# Altium footprint library PcbLib.PcbLib: 21 footprints (part 1 of 2)
Each footprint in its own frame and in the unit in brackets; x right, y up, seen from the top. Pads: shape width x height; smd on the part's side, far side on the other; paste and mask are expansions set on the pad; w line width, h text height; cw(c..) or ccw(c..) is an arc to the next point about the centre after c.
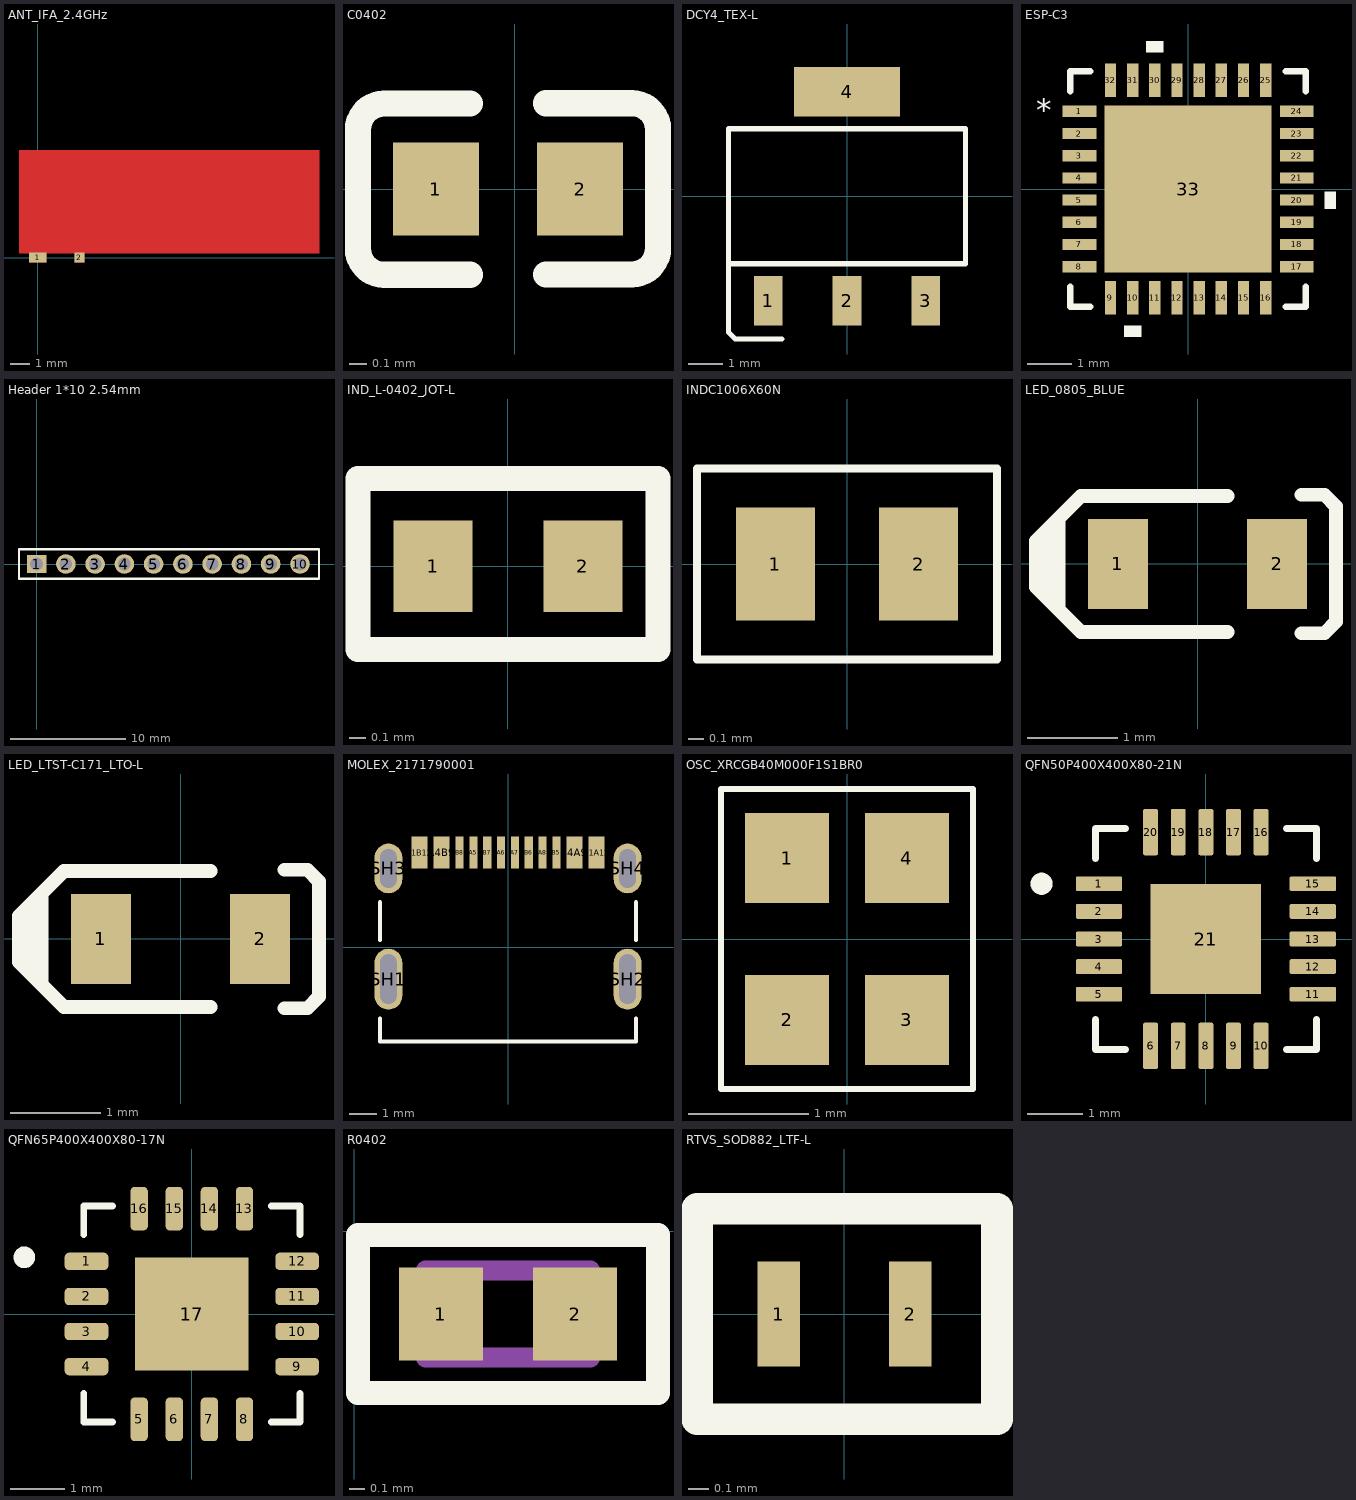
[diagram p0: the footprints below, top view; thin cyan lines are the x and y axes]

## ANT_IFA_2.4GHz [mm]
pads (2):
  rect 0.9x0.5 smd mask-2539.97: 1(0,0)
  rect 0.5x0.5 smd mask-2539.97: 2(2.107,-0.003)
Top Layer:
  rectangle: -0.45,-0.254 0.45,5.146
  region: 13.95,5.146 13.45,5.146 13.45,0.706 13.95,0.706
  region: 11.25,5.146 11.25,4.646 13.95,4.646 13.95,5.146
  rectangle: 11.25,2.006 11.75,5.146
  region: 11.75,2.006 11.75,2.506 8.75,2.506 8.75,2.006
  region: 9.25,5.146 8.75,5.146 8.75,2.006 9.25,2.006
  region: 9.25,4.646 9.25,5.146 6.55,5.146 6.55,4.646
  rectangle: 1.857,-0.253 2.357,5.146
  region: -0.45,5.146 -0.45,4.646 4.55,4.646 4.55,5.146
  region: 4.55,5.146 4.05,5.146 4.05,2.006 4.55,2.006
  region: 7.05,2.006 7.05,2.506 4.05,2.506 4.05,2.006
  rectangle: 6.55,2.006 7.05,5.146
  pour cut-out: -0.95,0.229 14.25,0.229 14.25,5.446 -0.95,5.446
Top Solder:
  rectangle: 1.857,0.247 2.357,5.15
  rectangle: -0.45,0.25 0.45,5.15
  region: 13.95,5.15 13.45,5.15 13.45,0.71 13.95,0.71
  region: 11.25,5.15 11.25,4.65 13.95,4.65 13.95,5.15
  rectangle: 11.25,2.01 11.75,5.15
  region: 11.75,2.01 11.75,2.51 8.75,2.51 8.75,2.01
  region: 9.25,5.15 8.75,5.15 8.75,2.01 9.25,2.01
  region: 9.25,4.65 9.25,5.15 6.55,5.15 6.55,4.65
  region: -0.45,5.15 -0.45,4.65 4.55,4.65 4.55,5.15
  region: 4.55,5.15 4.05,5.15 4.05,2.01 4.55,2.01
  region: 7.05,2.01 7.05,2.51 4.05,2.51 4.05,2.01
  rectangle: 6.55,2.01 7.05,5.15

## C0402 [mm]
pads (2):
  rect 0.5x0.54 smd paste+0 mask+0.051: 1(-0.459,0) 2(0.381,0)
Top Overlay:
  lines w0.152: -0.26,-0.5 -0.76,-0.5 cw(c-0.76,-0.347) -0.913,-0.347 -0.913,0.345 cw(c-0.76,0.345) -0.76,0.498 -0.26,0.498 ; 0.182,-0.498 0.682,-0.498 ccw(c0.682,-0.345) 0.835,-0.345 0.835,0.347 ccw(c0.682,0.347) 0.682,0.5 0.182,0.5
Mechanical 15:
  lines w0.003: 0.278,0.127 0.279,0.127
3D body "C0402C152J5GACTU.STEP": height 0.51, standoff 0.01, extent -0.551,-0.271 0.449,0.279

## DCY4_TEX-L [mil]
pads (4):
  rect 33x57.5 smd paste+0 mask+0: 1(-91,-120.75) 2(0,-120.75) 3(91,-120.75)
  rect 122x57.5 smd paste+0 mask+0: 4(0,120.75)
Top Overlay:
  lines w6: -75,-165 -129.22,-165 -137,-157.22 -137,-78 ; -137,-78 137,-78 137,78 -137,78 -137,-78
3D body "DCY4_TEX.step": height 67.09, standoff 0, extent -132.01,-143.5 132.01,143.5

## ESP-C3 [mm]
pads (33):
  rect 0.757x0.255 smd paste+0 mask+0: 1(-2.449,1.75) 2(-2.449,1.25) 3(-2.449,0.75) 4(-2.449,0.25) 5(-2.449,-0.25) 6(-2.449,-0.75) 7(-2.449,-1.25) 8(-2.449,-1.75) 17(2.449,-1.75) 18(2.449,-1.25) 19(2.449,-0.75) 20(2.449,-0.25) 21(2.449,0.25) 22(2.449,0.75) 23(2.449,1.25) 24(2.449,1.75)
  rect 0.255x0.757 smd paste+0 mask+0: 9(-1.75,-2.449) 10(-1.25,-2.449) 11(-0.75,-2.449) 12(-0.25,-2.449) 13(0.25,-2.449) 14(0.75,-2.449) 15(1.25,-2.449) 16(1.75,-2.449) 25(1.75,2.449) 26(1.25,2.449) 27(0.75,2.449) 28(0.25,2.449) 29(-0.25,2.449) 30(-0.75,2.449) 31(-1.25,2.449) 32(-1.75,2.449)
  rect 3.759x3.759 smd paste-1.88 mask+0: 33(0,0)
Top Overlay:
  region: -0.559,3.081 -0.94,3.081 -0.94,3.335 -0.559,3.335
  region: 3.081,-0.059 3.335,-0.059 3.335,-0.44 3.081,-0.44
  region: -1.059,-3.081 -1.44,-3.081 -1.44,-3.335 -1.059,-3.335
  lines w0.152: -2.654,-2.21 -2.654,-2.654 -2.21,-2.654 ; -2.654,2.21 -2.654,2.654 -2.21,2.654 ; 2.21,-2.654 2.654,-2.654 2.654,-2.21 ; 2.21,2.654 2.654,2.654 2.654,2.21
  text "*" at -3.429,1.524 h0.51
Top Paste:
  region: 1.78,-0.1 0.1,-0.1 0.1,-1.78 1.78,-1.78
  region: 1.78,1.78 0.1,1.78 0.1,0.1 1.78,0.1
  region: -0.1,-0.1 -1.78,-0.1 -1.78,-1.78 -0.1,-1.78
  region: -0.1,1.78 -1.78,1.78 -1.78,0.1 -0.1,0.1
3D body "QFN32_5X5_EXP.step": height 0.89, standoff 0, extent -2.527,-2.527 2.527,2.527

## Header 1*10 2.54mm [mm]
pads (10):
  rect 1.7x1.575 hole 1.1 paste-2539.97 mask+0.051: 1(0,0)
  round 1.7 hole 1.1 paste-2539.97 mask+0.051: 2(2.54,0) 3(5.08,0) 4(7.62,0) 5(10.16,0) 6(12.7,0) 7(15.24,0) 8(17.78,0) 9(20.32,0) 10(22.86,0)
Top Overlay:
  lines w0.203: -1.524,-1.27 -1.524,1.27 0.635,1.27 24.511,1.27 24.511,-1.27 -1.524,-1.27
Mechanical 15:
  lines w0.003: 19.05,0.127 19.05,0.127
3D body "PH1-10-UA.STEP": height 8.11, standoff -3.44, extent -1.274,-1.143 24.134,1.357

## IND_L-0402_JOT-L [mil]
pads (2):
  rect 19x22 smd paste+0 mask+0: 1(-18,0) 2(18,0)
Top Overlay:
  lines w6: -36,-20 -36,21 36,21 36,-20 -36,-20
3D body "IND_L-0402_JOT.step": height 24.02, standoff 0, extent -21.5,-12.01 21.5,12.01

## INDC1006X60N [mm]
pads (2):
  rect 0.51x0.73 smd: 1(-0.46,0) 2(0.46,0)
Top Overlay:
  lines w0.05: -0.965,-0.615 -0.965,0.615 0.965,0.615 0.965,-0.615 -0.965,-0.615
3D body "INDC1006X60N.step": height 0.61, standoff 0.01, extent -0.5,-0.3 0.5,0.3

## LED_0805_BLUE [mil]
pads (2):
  rect 26x39 smd paste+0 mask+0: 1(-34.5,0) 2(34.5,0)
Top Overlay:
  lines w6: -60.25,19.75 -60.25,-19.75 -70,-10 ; -13.04,-29.5 13.04,-29.5 -50.5,-29.5 -70,-10 ; 13.04,29.5 -13.04,29.5 -50.5,29.5 -70,10 -70,-10 ; 45,-30 55,-30 60,-25 60,25 55,30 45,30 ; -65.84,-14.16 -65.84,14.16 -65.84,-14.16
3D body "LED-0805-blue.step": height 31.5, standoff -0.39, extent -39.37,-24.61 39.37,24.61

## LED_LTST-C171_LTO-L [mil]
pads (2):
  rect 26x39 smd paste+0 mask+0: 1(-34.5,0) 2(34.5,0)
Top Overlay:
  lines w6: -60.25,19.75 -60.25,-19.75 -70,-10 ; -13.04,-29.5 13.04,-29.5 -50.5,-29.5 -70,-10 ; 13.04,29.5 -13.04,29.5 -50.5,29.5 -70,10 -70,-10 ; 45,-30 55,-30 60,-25 60,25 55,30 45,30 ; -65.84,-14.16 -65.84,14.16 -65.84,-14.16
3D body "LED-0805-red.step": height 31.5, standoff -0.39, extent -39.37,-24.61 39.37,24.61

## MOLEX_2171790001 [mm]
height 3.16
pads (16):
  rect 0.59x1.15 smd mask+0.064: A1B12(-3.2,3.425) A4B9(-2.4,3.425) B1A12(3.2,3.425) B4A9(2.4,3.425)
  rect 0.298x1.15 smd mask+0.064: A5(-1.25,3.425) A6(-0.25,3.425) A7(0.25,3.425) A8(1.25,3.425) B5(1.75,3.425) B6(0.75,3.425) B7(-0.75,3.425) B8(-1.75,3.425)
  oval 1x2.2 hole 0.6 slot 1.8 at 90 deg mask+0.064: SH1(-4.32,-1.15) SH2(4.32,-1.15)
  oval 1x1.8 hole 0.6 slot 1.4 at 90 deg mask+0.064: SH3(-4.32,2.85) SH4(4.32,2.85)
Top Overlay:
  lines w0.15: -4.62,-2.57 -4.62,-3.4 4.62,-3.4 4.62,-2.57 ; -4.62,0.27 -4.62,1.63 ; 4.62,0.27 4.62,1.63
3D body "2171790001.STEP": height 3.24, standoff -0.52, extent -4.47,-3.25 4.47,3.5

## OSC_XRCGB40M000F1S1BR0 [mm]
pads (4):
  rect 0.7x0.75 smd: 1(-0.5,0.675) 2(-0.5,-0.675) 3(0.5,-0.675) 4(0.5,0.675)
Top Overlay:
  lines w0.05: -1.05,-1.25 1.05,-1.25 1.05,1.25 -1.05,1.25 -1.05,-1.25
3D body "step_temp.STEP": height 0.7, standoff 0, extent -0.8,-1 0.8,1

## PCBComponent_1 [mm]
3D body "4_3inch-HDMI-LCD_B.stp": height 4.8, standoff -9.85, extent 0.1,-4.967 106.2,63.508

## QFN50P400X400X80-21N [mm]
pads (21):
  rrect25% 0.84x0.27 smd: 1(-1.935,1) 2(-1.935,0.5) 3(-1.935,0) 4(-1.935,-0.5) 5(-1.935,-1) 11(1.935,-1) 12(1.935,-0.5) 13(1.935,0) 14(1.935,0.5) 15(1.935,1)
  rrect25% 0.27x0.84 smd: 6(-1,-1.935) 7(-0.5,-1.935) 8(0,-1.935) 9(0.5,-1.935) 10(1,-1.935) 16(1,1.935) 17(0.5,1.935) 18(0,1.935) 19(-0.5,1.935) 20(-1,1.935)
  rect 2x2 smd paste-0.37: 21(0,0)
Top Overlay:
  circle w0.2: c-2.975,1 r0.1
  lines w0.127: -2,-1.455 -2,-2 -1.455,-2 ; -2,1.455 -2,2 -1.455,2 ; 1.455,-2 2,-2 2,-1.455 ; 1.455,2 2,2 2,1.455
3D body "FT231XQ-R.STEP": height 0.81, standoff 0.01, extent -1.968,-2 2.032,2

## QFN65P400X400X80-17N [mm]
height 0.8
pads (17):
  rrect50% 0.81x0.32 smd: 1(-1.95,0.975) 2(-1.95,0.325) 3(-1.95,-0.325) 4(-1.95,-0.975) 9(1.95,-0.975) 10(1.95,-0.325) 11(1.95,0.325) 12(1.95,0.975)
  rrect50% 0.32x0.81 smd: 5(-0.975,-1.95) 6(-0.325,-1.95) 7(0.325,-1.95) 8(0.975,-1.95) 13(0.975,1.95) 14(0.325,1.95) 15(-0.325,1.95) 16(-0.975,1.95)
  rect 2.1x2.1 smd paste-2: 17(0,0)
Top Overlay:
  circle w0.2: c-3.1,1.05 r0.1
  lines w0.127: -2,-1.47 -2,-2 -1.47,-2 ; -2,1.47 -2,2 -1.47,2 ; 1.47,-2 2,-2 2,-1.47 ; 1.47,2 2,2 2,1.47
Top Paste:
  region: -0.13,-0.79 -0.79,-0.79 -0.79,-0.13 -0.13,-0.13
  region: 0.79,-0.79 0.13,-0.79 0.13,-0.13 0.79,-0.13
  region: 0.79,0.13 0.13,0.13 0.13,0.79 0.79,0.79
  region: -0.13,0.13 -0.79,0.13 -0.79,0.79 -0.13,0.79
3D body "step_temp.STEP": height 0.8, standoff 0, extent -2,-2 2,2

## R0402 [mm]
pads (2):
  rect 0.54x0.6 smd: 1(0.559,-0.533) 2(1.423,-0.533)
Top Overlay:
  lines w0.152: 0.025,-1.041 0.025,-0.025 1.956,-0.025 1.956,-1.041 0.025,-1.041
Mechanical 13:
  lines w0.127: 0.461,-0.813 0.461,-0.253 1.521,-0.253 1.521,-0.813 0.461,-0.813
3D body "step_temp.STEP": height 0.37, standoff 0, extent 0.491,-0.783 1.491,-0.283

## RTVS_SOD882_LTF-L [mil]
pads (2):
  rect 8.06x20.03 smd paste+0 mask+0: 1(-12.5,0) 2(12.5,0)
Top Overlay:
  lines w6: -28,-20 -28,20 29,20 29,-20 -28,-20
3D body "RTVS_SOD882_LTF.step": height 22.09, standoff 0, extent -21.5,-12.99 21.5,12.99